# EAGLE library part KA2281 (library linear)
5-DOT DUAL LED LEVEL METER DRIVER
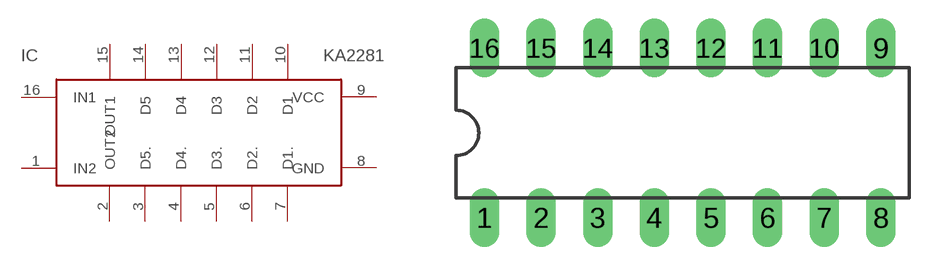
[diagram p264: symbol with the pads of DIL16; footprint DIL16]

Designator prefix IC

## KA2281  [DIL16]
1  IN2
2  OUT2
3  D5.
4  D4.
5  D3.
6  D2.
7  D1.
8  GND
9  VCC
10  D1
11  D2
12  D3
13  D4
14  D5
15  OUT1
16  IN1

## Footprint DIL16 (pad centres in mm)
Dual In Line Package
drill 0.813 long: 1 -8.89,-3.81; 2 -6.35,-3.81; 3 -3.81,-3.81; 4 -1.27,-3.81; 5 1.27,-3.81; 6 3.81,-3.81; 7 6.35,-3.81; 8 8.89,-3.81; 9 8.89,3.81; 10 6.35,3.81; 11 3.81,3.81; 12 1.27,3.81; 13 -1.27,3.81; 14 -3.81,3.81; 15 -6.35,3.81; 16 -8.89,3.81